# Altium schematic symbol library FLASH.SchLib: 5 symbols
Pins are listed as number, name and electrical type; pins without a type are passive.

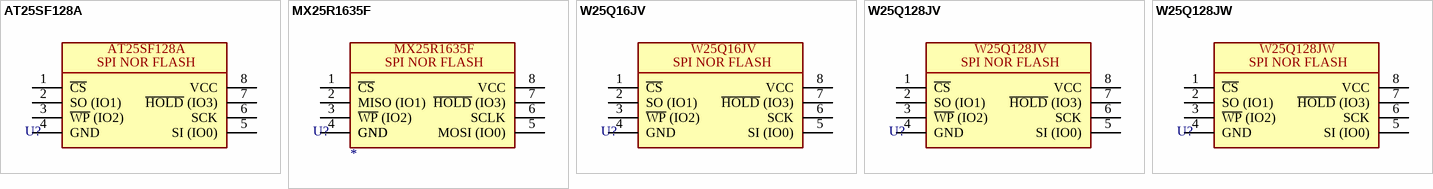
[diagram p0: symbols AT25SF128A to W25Q128JW]

## AT25SF128A
designator U?
FLASH - NOR Memory IC SPI - Quad I/O 133 MHz 8-SOIC; Manufacturer 1: Renesas Electronics Corporation; Manufacturer Part Number 1: *; Package: 8-SOIC; Value: *
footprint SOIC127P800X216-8L (SOIC, 8-Leads, Body 5.26x5.29mm, Pitch 1.27mm, IPC High Density)
pins: 1 ~{CS}, 2 SO (IO1), 3 ~{WP} (IO2), 4 GND, 5 SI (IO0), 6 SCK, 7 ~{HOLD} (IO3), 8 VCC
text: SPI NOR FLASH

## MX25R1635F
designator U?
1.65V~3.6V 100,000 Cycles 16Mbit 20 Years 3.2ms 80MHz SPI NOR FLASH ROHS; Manufacturer 1: MXIC(Macronix); Manufacturer Part Number 1: *; Package: *; Supplier 1: *; Supplier Part Number 1: *; Value: *
footprint MX25R1635FZU (1.65V~3.6V 100,000 Cycles 16Mbit 20 Years 3.2ms 80MHz SPI USON-8-EP(2x3) NOR FLASH ROHS)
pins: 1 ~{CS}, 2 MISO (IO1), 3 ~{WP} (IO2), 4 GND, 5 MOSI (IO0), 6 SCLK, 7 ~{HOLD} (IO3), 8 VCC, 9 GND
text: SPI NOR FLASH

## W25Q16JV
designator U?
FLASH - NOR Memory IC SPI - Quad I/O 133 MHz 8-SOIC; Manufacturer 1: Winbond; Manufacturer Part Number 1: *; Package: 8-SOIC; Value: *
footprint SOIC127P600X175-8M (SOIC, 8-Leads, Body 4.90x3.90mm, Pitch 1.27mm, IPC Low Density)
pins: 1 ~{CS}, 2 SO (IO1), 3 ~{WP} (IO2), 4 GND, 5 SI (IO0), 6 SCK, 7 ~{HOLD} (IO3), 8 VCC
text: SPI NOR FLASH

## W25Q128JV
designator U?
FLASH - NOR Memory IC SPI - Quad I/O 133 MHz 8-SOIC; Manufacturer 1: Winbond; Manufacturer Part Number 1: W25Q128JVSIQ; Package: 8-SOIC; Value: *
footprint SOIC127P780X195-8N
pins: 1 ~{CS}, 2 SO (IO1), 3 ~{WP} (IO2), 4 GND, 5 SI (IO0), 6 SCK, 7 ~{HOLD} (IO3), 8 VCC
text: SPI NOR FLASH

## W25Q128JW
designator U?
FLASH - NOR Memory IC SPI - Quad I/O 133 MHz 8-SOIC; Manufacturer 1: Renesas Electronics Corporation; Manufacturer Part Number 1: *; Package: 8-SOIC; Value: *
footprint SOIC127P800X216-8L (SOIC, 8-Leads, Body 5.26x5.29mm, Pitch 1.27mm, IPC High Density)
footprint SOIC127P790X216-8M (SOIC, 8-Leads, Body 5.28x5.28mm, Pitch 1.27mm, IPC Low Density)
pins: 1 ~{CS}, 2 SO (IO1), 3 ~{WP} (IO2), 4 GND, 5 SI (IO0), 6 SCK, 7 ~{HOLD} (IO3), 8 VCC
text: SPI NOR FLASH